# Altium integrated library IRFZ44NS-D2Pak.IntLib: 1 symbol
Pins are listed as number, name and electrical type; pins without a type are passive.

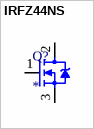
[diagram p0: symbol IRFZ44NS]

## IRFZ44NS
designator Q?
RoHS Compliant | Low RDS(on) | Industry-leading quality | Dynamic dv/dt Rating | Fast Switching | Fully Avalanche Rated | 175C Operating Temperature; MF: Infineon Technologies; MP: IRFZ44NSTRRPBF; Value: *; SnapEDA_Link: https://www.snapeda.com/parts/IRFZ44NSTRRPBF/Infineon+Technologies/view-part/?ref=snap; Availability: In Stock; Price: None; Check_prices: https://www.snapeda.com/parts/IRFZ44NSTRRPBF/Infineon+Technologies/view-part/?ref=eda; Purchase-URL: https://pricing.snapeda.com/search/part/IRFZ44NSTRRPBF/?ref=eda; Package: D2PAK Infineon
footprint IRFZ44NS-D2Pak
pins: 1 G, 2 D, 3 S